# EAGLE library part ESP-12E/F (library ali_modules)
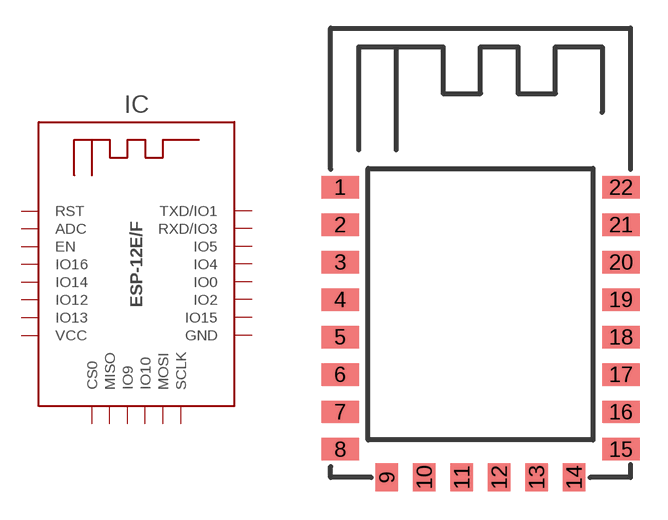
[diagram p0: symbol with the pads of ESP-12E; footprint ESP-12E]

Designator prefix IC

## ESP-12E/F  [ESP-12E]
1  RST  in
2  ADC
3  EN
4  IO16
5  IO14
6  IO12
7  IO13
8  VCC  pwr
9  CS0
10  MISO
11  IO9
12  IO10
13  MOSI
14  SCLK
15  GND  pwr
16  IO15
17  IO2
18  IO0
19  IO4
20  IO5
21  RXD/IO3
22  TXD/IO1

## Footprint ESP-12E (pad centres in mm)
3D model <https://grabcad.com/library/esp8266-4>
smd 2 x 1.2: 1 -7.46,7.53; 2 -7.46,5.53; 3 -7.46,3.53; 4 -7.46,1.53; 5 -7.46,-0.47; 6 -7.46,-2.47; 7 -7.46,-4.47; 8 -7.46,-6.47; 15 7.54,-6.47; 16 7.54,-4.47; 17 7.54,-2.47; 18 7.54,-0.47; 19 7.54,1.53; 20 7.54,3.53; 21 7.54,5.53; 22 7.54,7.53
smd 1.2 x 1.5: 9 -4.96,-7.97; 10 -2.96,-7.97; 11 -0.96,-7.97; 12 1.04,-7.97; 13 3.04,-7.97; 14 5.04,-7.97